# Altium footprint library fszhang.PcbLib: 298 footprints (part 10 of 19)
Each footprint in its own frame and in the unit in brackets; x right, y up, seen from the top. Pads: shape width x height; smd on the part's side, far side on the other; paste and mask are expansions set on the pad; w line width, h text height; cw(c..) or ccw(c..) is an arc to the next point about the centre after c.
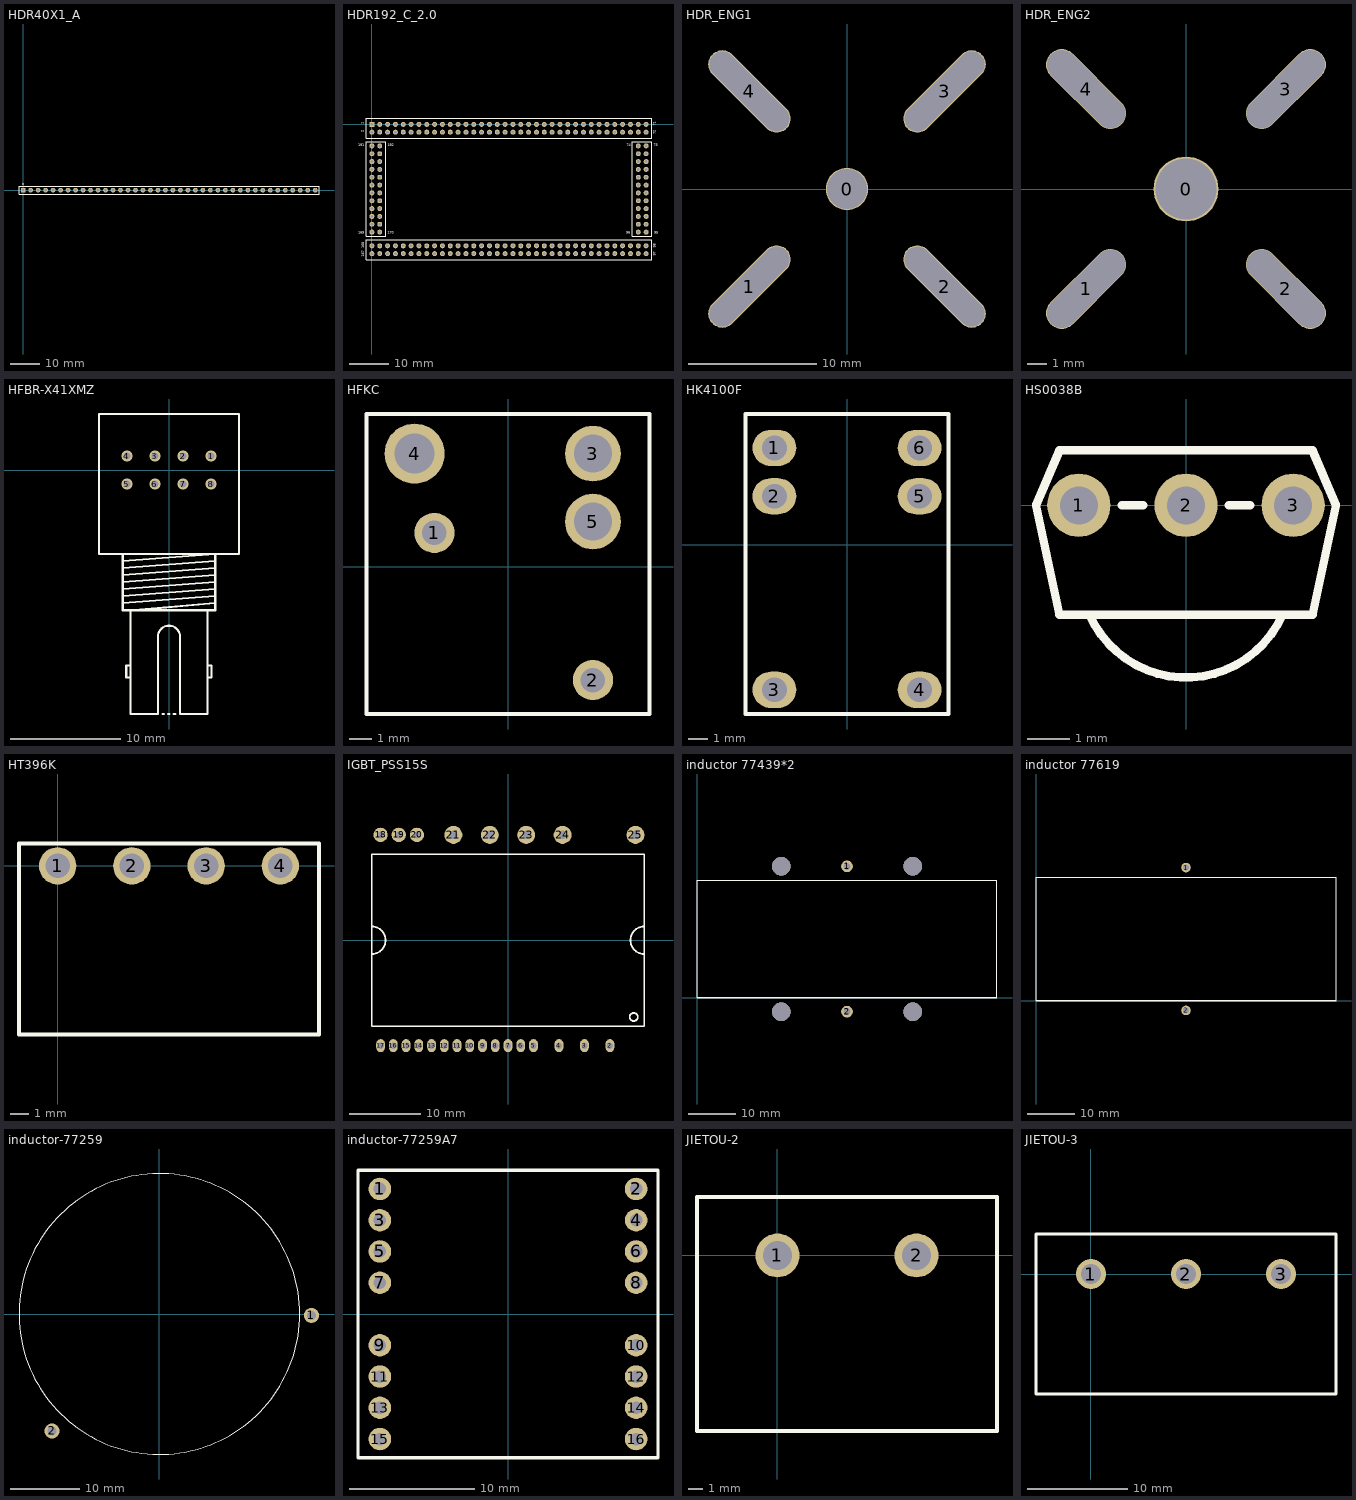
[diagram p9: the footprints below, top view; thin cyan lines are the x and y axes]

## HDR40X1_A [mm] "Connector; Header; 30 Position"
height 1.2
pads (40):
  rect 1.6x1.6 hole 0.99: 1(0,0)
  round 1.6 hole 0.99: 2(2.54,0) 3(5.08,0) 4(7.62,0) 5(10.16,0) 6(12.7,0) 7(15.24,0) 8(17.78,0) 9(20.32,0) 10(22.86,0) 11(25.4,0) 12(27.94,0) 13(30.48,0) 14(33.02,0) 15(35.56,0) 16(38.1,0) 17(40.64,0) 18(43.18,0) 19(45.72,0) 20(48.26,0) 21(50.8,0) 22(53.34,0) 23(55.88,0) 24(58.42,0) 25(60.96,0) 26(63.5,0) 27(66.04,0) 28(68.58,0) 29(71.12,0) 30(73.66,0)
  round 1.6 hole 1: 31(76.2,0) 32(78.74,0) 33(81.28,0) 34(83.82,0) 35(86.36,0) 36(88.9,0) 37(91.44,0) 38(93.98,0) 39(96.52,0) 40(99.06,0)
Top Overlay:
  circle w0.25: c0,2.05 r0.125
  lines w0.2: -1.4,-1.4 -1.4,1.4 100.33,1.4 100.33,-1.4 -1.4,-1.4

## HDR192_C_2.0 [mm] "2440"
height 7
pads (192):
  rect 1.27x1.27 hole 0.7: 1(0,0)
  round 1.27 hole 0.7: 2(0,-2) 3(2,0) 4(2,-2) 5(4,0) 6(4,-2) 7(6,0) 8(6,-2) 9(8,0) 10(8,-2) 11(10,0) 12(10,-2) 13(12,0) 14(12,-2) 15(14,0) 16(14,-2) 17(16,0) 18(16,-2) 19(18,0) 20(18,-2) 21(20,0) 22(20,-2) 23(22,0) 24(22,-2) 25(24,0) 26(24,-2) 27(26,0) 28(26,-2) 29(28,0) 30(28,-2) 31(30,0) 32(30,-2) 33(32,0) 34(32,-2) 35(34,0) 36(34,-2) 37(36,0) 38(36,-2) 39(38,0) 40(38,-2) 41(40,0) 42(40,-2) 43(42,0) 44(42,-2) 45(44,0) 46(44,-2) 47(46,0) 48(46,-2) 49(48,0) 50(48,-2) 51(50,0) 52(50,-2) 53(52,0) 54(52,-2) 55(54,0) 56(54,-2) 57(56,0) 58(56,-2) 59(58,0) 60(58,-2) 61(60,0) 62(60,-2) 63(62,0) 64(62,-2) 65(64,0) 66(64,-2) 67(66,0) 68(66,-2) 69(68,0) 70(68,-2) 71(70,0) 72(70,-2) 73(70,-5.5) 74(68,-5.5) 75(70,-7.5) 76(68,-7.5) 77(70,-9.5) 78(68,-9.5) 79(70,-11.5) 80(68,-11.5) 81(70,-13.5) 82(68,-13.5) 83(70,-15.5) 84(68,-15.5) 85(70,-17.5) 86(68,-17.5) 87(70,-19.5) 88(68,-19.5) 89(70,-21.5) 90(68,-21.5) 91(70,-23.5) 92(68,-23.5) 93(70,-25.5) 94(68,-25.5) 95(70,-27.5) 96(68,-27.5) 97(70,-33) 98(70,-31) 99(68,-33) 100(68,-31) 101(66,-33) 102(66,-31) 103(64,-33) 104(64,-31) 105(62,-33) 106(62,-31) 107(60,-33) 108(60,-31) 109(58,-33) 110(58,-31) 111(56,-33) 112(56,-31) 113(54,-33) 114(54,-31) 115(52,-33) 116(52,-31) 117(50,-33) 118(50,-31) 119(48,-33) 120(48,-31) 121(46,-33) 122(46,-31) 123(44,-33) 124(44,-31) 125(42,-33) 126(42,-31) 127(40,-33) 128(40,-31) 129(38,-33) 130(38,-31) 131(36,-33) 132(36,-31) 133(34,-33) 134(34,-31) 135(32,-33) 136(32,-31) 137(30,-33) 138(30,-31) 139(28,-33) 140(28,-31) 141(26,-33) 142(26,-31) 143(24,-33) 144(24,-31) 145(22,-33) 146(22,-31) 147(20,-33) 148(20,-31) 149(18,-33) 150(18,-31) 151(16,-33) 152(16,-31) 153(14,-33) 154(14,-31) 155(12,-33) 156(12,-31) 157(10,-33) 158(10,-31) 159(8,-33) 160(8,-31) 161(6,-33) 162(6,-31) 163(4,-33) 164(4,-31) 165(2,-33) 166(2,-31) 167(0,-33) 168(0,-31) 169(0,-27.5) 170(2,-27.5) 171(0,-25.5) 172(2,-25.5) 173(0,-23.5) 174(2,-23.5) 175(0,-21.5) 176(2,-21.5) 177(0,-19.5) 178(2,-19.5) 179(0,-17.5) 180(2,-17.5) 181(0,-15.5) 182(2,-15.5) 183(0,-13.5) 184(2,-13.5) 185(0,-11.5) 186(2,-11.5) 187(0,-9.5) 188(2,-9.5) 189(0,-7.5) 190(2,-7.5) 191(0,-5.5) 192(2,-5.5)
Top Overlay:
  lines w0.2: -1.469,-3.5 -1.469,1.5 71.439,1.5 71.439,-3.5 -1.469,-3.5
  lines w0.254: -1.5,-34.5 71.5,-34.5 71.5,-29.5 -1.5,-29.5 -1.5,-34.5 ; -1.5,-28.5 -1.5,-4.5 3.5,-4.5 3.5,-28.5 -1.5,-28.5 ; 66.5,-28.5 71.5,-28.5 71.5,-4.5 66.5,-4.5 66.5,-28.5
  text "1" at -2.032,0 h0.64
  text "2" at -2.032,-2.032 h0.64
  text "71" at 72.4,-0.4 h0.64
  text "72" at 72.4,-2.5 h0.64
  text "74" at 65.024,-5.588 h0.64
  text "73" at 72,-5.6 h0.64
  text "95" at 72.136,-27.94 h0.64
  text "96" at 64.9,-27.9 h0.64
  text "97" at 72.4,-33.6 h0.64
  text "98" at 72.4,-31.5 h0.64
  text "167" at -2,-33.8 h0.64
  text "170" at 4.064,-27.94 h0.64
  text "169" at -3.556,-27.94 h0.64
  text "191" at -3.556,-5.588 h0.64
  text "192" at 4.064,-5.588 h0.64
  text "168" at -2,-31.6 h0.64

## HDR_ENG1 [mm] "舵机"
height 3
pads (5):
  round 3.3 hole 3.1: 0(0,0)
  oval 2.2x8.2 hole 2 slot 8 at 45 deg rot 135: 1(-7.62,-7.62) 3(7.62,7.62)
  oval 2.2x8.2 hole 2 slot 8 at 135 deg rot 45: 2(7.62,-7.62) 4(-7.62,7.62)

## HDR_ENG2 [mm] "舵机"
height 3
pads (5):
  round 3.3 hole 3.1: 0(0,0)
  oval 1.6x5.1 hole 1.5 slot 5 at 45 deg rot 135: 1(-5.08,-5.08) 3(5.08,5.08)
  oval 1.6x5.1 hole 1.5 slot 5 at 135 deg rot 45: 2(5.08,-5.08) 4(-5.08,5.08)

## HFBR-X41XMZ [mm]
height 10.2
pads (8):
  round 1 hole 0.6: 1(3.81,1.27) 2(1.27,1.27) 3(-1.27,1.27) 4(-3.81,1.27) 5(-3.81,-1.27) 6(-1.27,-1.27) 7(1.27,-1.27) 8(3.81,-1.27)
Top Overlay:
  lines w0.2: -4.2,-12.065 4.2,-11.43 ; -4.2,-11.43 4.2,-10.795 ; -4.2,-10.795 4.2,-10.16 ; -4.2,-10.16 4.2,-9.525 ; -4.2,-9.525 4.2,-8.89 ; -4.2,-8.89 4.191,-8.255 ; -4.191,-8.255 4.2,-7.62 ; -3.5,-18.82 -3.881,-18.82 -3.881,-17.72 -3.5,-17.72 ; -3.175,-12.72 4.2,-12.065 ; -0.579,-22.12 -0.452,-22.12 ; -0.071,-22.12 0.056,-22.12 ; 0.437,-22.12 0.564,-22.12 ; 1,-15.12 1,-22.12 3.5,-22.12 3.5,-12.72 -3.5,-12.72 -3.5,-22.12 -1,-22.12 -1,-15.12 cw(c0,-15.113) 1,-15.113 ; 3.5,-18.82 3.866,-18.82 3.866,-17.72 3.5,-17.72 ; 4.2,-7.62 4.2,-12.72 -4.2,-12.72 -4.2,-7.62 4.2,-7.62 ; -6.35,-7.62 6.35,-7.62 6.35,5.08 -6.35,5.08 -6.35,-7.62

## HFKC [mm] "继电器"
height 11.8
pads (5):
  round 1.8 hole 1.1: 1(-3.302,1.524) 2(3.81,-5.08)
  round 2.5 hole 1.7: 3(3.81,5.08) 5(3.81,2.032)
  round 2.7 hole 1.8: 4(-4.191,5.08)
Top Overlay:
  lines w0.2: -6.35,-6.604 6.35,-6.604 6.35,6.858 -6.35,6.858 -6.35,-6.604

## HK4100F [mm] "继?"
height 11.8
pads (6):
  oval 2.3x1.9 hole 1.3: 1(-3.81,5.08) 2(-3.81,2.54) 3(-3.81,-7.62) 4(3.81,-7.62) 5(3.81,2.54) 6(3.81,5.08)
Top Overlay:
  lines w0.2: -5.334,-8.89 5.334,-8.89 5.334,6.858 -5.334,6.858 -5.334,-8.89
3D body: height 12, standoff 0, extent -5.334,-8.89 5.334,6.858

## HS0038B [mm] "红外接收头"
height 6.95
pads (3):
  round 1.5 hole 0.9: 1(-2.54,0) 2(0,0) 3(2.54,0)
Top Overlay:
  lines w0.2: -2.285,-2.599 ccw(c0,-1.584) 2.285,-2.599 ; -1.524,0 -1.016,0 ; 1.016,0 1.524,0 ; -3.556,0 -3,-2.6 3,-2.6 3.556,0 3,1.3 -3,1.3 -3.556,0

## HT396K [mm]
pads (4):
  round 2 hole 1.3: 1(0,0) 2(3.96,0) 3(7.92,0) 4(11.88,0)
Top Overlay:
  lines w0.2: -2.06,-9 -2.06,1.2 13.94,1.2 13.94,-9 -2.06,-9

## IGBT_PSS15S [mm]
pads (24):
  oval 1.2x1.8 hole 0.9: 2(14.224,-14.7) 3(10.668,-14.7) 4(7.112,-14.7) 5(3.556,-14.7) 6(1.778,-14.7) 7(0,-14.7) 8(-1.778,-14.7) 9(-3.556,-14.7) 10(-5.334,-14.7) 11(-7.112,-14.7) 12(-8.89,-14.7) 13(-10.668,-14.7) 14(-12.446,-14.7) 15(-14.224,-14.7) 16(-16.002,-14.7) 17(-17.78,-14.7)
  round 2 hole 1: 18(-17.78,14.7) 19(-15.24,14.7) 20(-12.7,14.7)
  round 2.5 hole 1.2: 21(-7.62,14.7) 22(-2.54,14.7) 23(2.54,14.7) 24(7.62,14.7) 25(17.78,14.7)
Top Overlay:
  circle w0.254: c17.534,-10.7 r0.566
  lines w0.254: -19,-1.924 ccw(c-19,0) -19,1.924 ; 19,-1.924 cw(c19,0) 19,1.924 ; -19,-12 19,-12 19,12 -19,12 -19,-12

## inductor 77439*2 [mm]
pads (2):
  round 2.5 hole 1.5: 1(32,28) 2(32,-3)
via 46,-3 diameter 4 hole 4
via 46,28 diameter 4 hole 4
via 18,28 diameter 4 hole 4
via 18,-3 diameter 4 hole 4
Top Overlay:
  lines w0.2: 0,0 0,25 64,25 64,0
  lines w0.3: 0,0 64,0

## inductor 77619 [mm]
pads (2):
  round 2 hole 1.2: 1(31.5,28) 2(31.5,-2)
Top Overlay:
  lines w0.2: 0,0 0,26 63,26 63,0.1
  lines w0.3: 0,0 63,0

## inductor-77259 [mm]
pads (2):
  round 2.2 hole 1.3: 1(22.1,-0.2) 2(-15.6,-17)
Top Overlay:
  circle w0.15: c0,0 r20.4

## inductor-77259A7 [mm]
pads (16):
  round 1.8 hole 1: 1(-10.25,10) 2(10.25,10) 3(-10.25,7.5) 4(10.25,7.5) 5(-10.25,5) 6(10.25,5) 7(-10.25,2.5) 8(10.25,2.5) 9(-10.25,-2.5) 10(10.25,-2.5) 11(-10.25,-5) 12(10.25,-5) 13(-10.25,-7.5) 14(10.25,-7.5) 15(-10.25,-10) 16(10.25,-10)
Top Overlay:
  lines w0.254: -12,-11.5 11.5,-11.5 12,-11.5 12,11.5 -12,11.5 -12,-11.5

## JIETOU-2 [mm]
pads (2):
  round 3 hole 2: 1(0,0) 2(9.5,0)
Top Overlay:
  lines w0.254: -5.5,-12 -5.5,4 15,4 15,-12 -5.5,-12

## JIETOU-3 [mm]
pads (3):
  round 3 hole 2: 1(0,0) 2(9.5,0) 3(19,0)
Top Overlay:
  lines w0.254: -5.5,-12 24.5,-12 24.5,4 -5.5,4 -5.5,-12